# Altium integrated library Analog Devices Data Converters Analog-to-Digital Converters.IntLib: 2400 symbols (part 328 of 338)
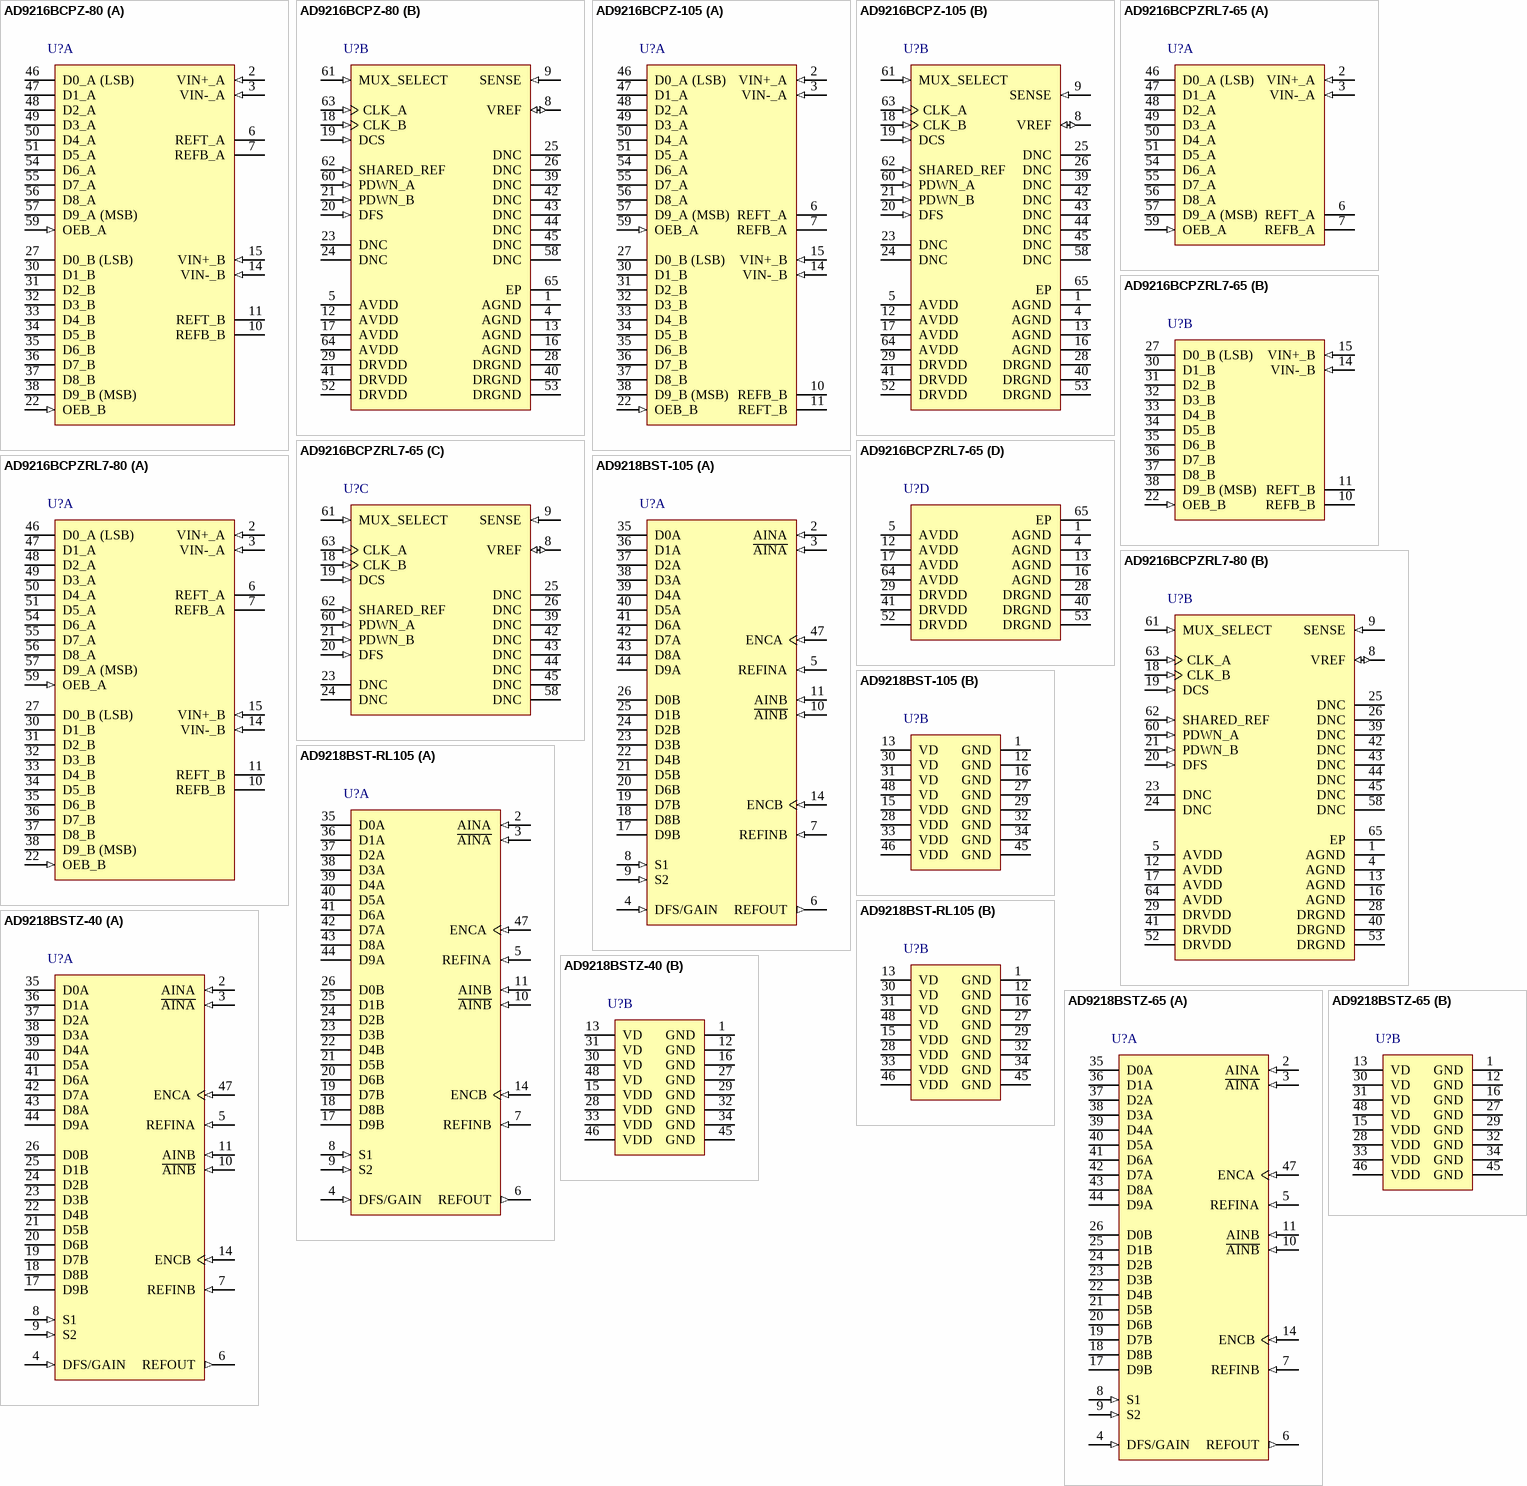
[diagram p433: symbols AD9216BCPZ-80 to AD9218BSTZ-65]

## AD9218BST-RL105
designator U?
Dual 10-Bit Analog-to-Digital Converter with Parallel Interface, 3 V, 105MSPS, -40 to +85 degC, ST-48, Reel; Part Number: AD9218-105; Manufacturer: Analog Devices; Resolution (Bits): 10; Channels: 2; Throughput Rate (SPS): 105M; Interface: Par; DatasheetVersion: Rev.C; PackageVersion: revA; PackageReference: ST-48; PackageDescription: 48-Pin Thin Quad Flat Pack 0.5 mm Pitch; RoHS: N; Packing: Reel; Mounting Technology: Surface Mount; ComponentLink1Description: Manufacturer URL; ComponentLink1URL: http://www.analog.com/en/index.html; ComponentLink2Description: Datasheet; ComponentLink2URL: http://www.analog.com/static/imported-files/data_sheets/AD9218.pdf; ComponentLink3Description: Package Specification; ComponentLink3URL: http://www.analog.com/static/imported-files/packages/PKG_PDF/LQFP%28ST%29/ST_48.pdf; ComponentLink4Description: Product URL; ComponentLink4URL: http://www.analog.com/en/analog-to-digital-converters/ad-converters/ad9218/products/product.html
footprint ST-48_N (Thin QFP, 48-Leads, Body 7x7mm, Pitch 0.5mm, IPC Medium Density)
footprint ST-48_L (Thin QFP, 48-Leads, Body 7x7mm, Pitch 0.5mm, IPC High Density)
footprint ST-48_M (Thin QFP, 48-Leads, Body 7x7mm, Pitch 0.5mm, IPC Low Density)
part A pins: 2 AINA (in) "Analog Input for Channel A.", 3 ~{AINA} (in) "Analog Input for Channel A (Complementary).", 4 DFS/GAIN (in) "Data Format Select and Analog Input Gain Mode. Low = offset binary output available, 1 V p-p supported;  high = twos complement output available, 1 V p-p supported; floating = offset binary output available,   2 V p-p (See Datasheet)", 5 REFINA (in) "Reference Voltage Input for Channel A.", 6 REFOUT (out) "Internal Reference Voltage.", 7 REFINB (in) "Reference Voltage Input for Channel B.", 8 S1 (in) "User Select No. 1. See Table 6.", 9 S2 (in) "User Select No. 2. See Table 6.", 10 ~{AINB} (in) "Analog Input for Channel B (Complementary).", 11 AINB (in) "Analog Input for Channel B.", 14 ENCB (in) "Clock Input for Channel B.", 17 D9B (hiz) "Digital Output for Channel B (D9B = MSB).", 18 D8B (hiz) "Digital Output for Channel B (D9B = MSB).", 19 D7B (hiz) "Digital Output for Channel B (D9B = MSB).", 20 D6B (hiz) "Digital Output for Channel B (D9B = MSB).", 21 D5B (hiz) "Digital Output for Channel B (D9B = MSB).", 22 D4B (hiz) "Digital Output for Channel B (D9B = MSB).", 23 D3B (hiz) "Digital Output for Channel B (D9B = MSB).", 24 D2B (hiz) "Digital Output for Channel B (D9B = MSB).", 25 D1B (hiz) "Digital Output for Channel B (D9B = MSB).", 26 D0B (hiz) "Digital Output for Channel B (D9B = MSB).", 35 D0A (hiz) "Digital Output for Channel A (D9A = MSB).", 36 D1A (hiz) "Digital Output for Channel A (D9A = MSB).", 37 D2A (hiz) "Digital Output for Channel A (D9A = MSB).", 38 D3A (hiz) "Digital Output for Channel A (D9A = MSB).", 39 D4A (hiz) "Digital Output for Channel A (D9A = MSB).", 40 D5A (hiz) "Digital Output for Channel A (D9A = MSB).", 41 D6A (hiz) "Digital Output for Channel A (D9A = MSB).", 42 D7A (hiz) "Digital Output for Channel A (D9A = MSB).", 43 D8A (hiz) "Digital Output for Channel A (D9A = MSB).", 44 D9A (hiz) "Digital Output for Channel A (D9A = MSB).", 47 ENCA (in) "Clock Input for Channel A."
part B pins: 1 GND (power) "Ground.", 12 GND (power) "Ground.", 13 VD (power) "Analog Supply (3 V).", 15 VDD (power) "Digital Supply (2.5 V to 3.6 V).", 16 GND (power) "Ground.", 27 GND (power) "Ground.", 28 VDD (power) "Digital Supply (2.5 V to 3.6 V).", 29 GND (power) "Ground.", 30 VD (power) "Analog Supply (3 V).", 31 VD (power) "Analog Supply (3 V).", 32 GND (power) "Ground.", 33 VDD (power) "Digital Supply (2.5 V to 3.6 V).", 34 GND (power) "Ground.", 45 GND (power) "Ground.", 46 VDD (power) "Digital Supply (2.5 V to 3.6 V).", 48 VD (power) "Analog Supply (3 V)."

## AD9218BSTZ-40
designator U?
Dual 10-Bit Analog-to-Digital Converter with Parallel Interface, 40 / 65 / 80 / 105 Msps 3 V 40MSPS, -40 to +85 degC, ST-48, Pb-Free, Tray; Part Number: AD9218-40; Manufacturer: Analog Devices; Resolution (Bits): 10; Channels: 2; Throughput Rate (SPS): 40M; Interface: Par; DatasheetVersion: Rev.C; PackageVersion: revA; PackageReference: ST-48; PackageDescription: 48-Pin Thin Quad Flat Pack 0.5 mm Pitch; RoHS: Y; Packing: Tray; Mounting Technology: Surface Mount; ComponentLink1Description: Manufacturer URL; ComponentLink1URL: http://www.analog.com/en/index.html; ComponentLink2Description: Datasheet; ComponentLink2URL: http://www.analog.com/static/imported-files/data_sheets/AD9218.pdf; ComponentLink3Description: Package Specification; ComponentLink3URL: http://www.analog.com/static/imported-files/packages/PKG_PDF/LQFP%28ST%29/ST_48.pdf; ComponentLink4Description: Product URL; ComponentLink4URL: http://www.analog.com/en/analog-to-digital-converters/ad-converters/ad9218/products/product.html
footprint ST-48_N (Thin QFP, 48-Leads, Body 7x7mm, Pitch 0.5mm, IPC Medium Density)
footprint ST-48_L (Thin QFP, 48-Leads, Body 7x7mm, Pitch 0.5mm, IPC High Density)
footprint ST-48_M (Thin QFP, 48-Leads, Body 7x7mm, Pitch 0.5mm, IPC Low Density)
part A pins: 2 AINA (in) "Analog Input for Channel A.", 3 ~{AINA} (in) "Analog Input for Channel A (Complementary).", 4 DFS/GAIN (in) "Data Format Select and Analog Input Gain Mode. Low = offset binary output available, 1 V p-p supported;  high = twos complement output available, 1 V p-p supported; floating = offset binary output available,   2 V p-p (See Datasheet)", 5 REFINA (in) "Reference Voltage Input for Channel A.", 6 REFOUT (out) "Internal Reference Voltage.", 7 REFINB (in) "Reference Voltage Input for Channel B.", 8 S1 (in) "User Select No. 1. See Table 6.", 9 S2 (in) "User Select No. 2. See Table 6.", 10 ~{AINB} (in) "Analog Input for Channel B (Complementary).", 11 AINB (in) "Analog Input for Channel B.", 14 ENCB (in) "Clock Input for Channel B.", 17 D9B (hiz) "Digital Output for Channel B (D9B = MSB).", 18 D8B (hiz) "Digital Output for Channel B (D9B = MSB).", 19 D7B (hiz) "Digital Output for Channel B (D9B = MSB).", 20 D6B (hiz) "Digital Output for Channel B (D9B = MSB).", 21 D5B (hiz) "Digital Output for Channel B (D9B = MSB).", 22 D4B (hiz) "Digital Output for Channel B (D9B = MSB).", 23 D3B (hiz) "Digital Output for Channel B (D9B = MSB).", 24 D2B (hiz) "Digital Output for Channel B (D9B = MSB).", 25 D1B (hiz) "Digital Output for Channel B (D9B = MSB).", 26 D0B (hiz) "Digital Output for Channel B (D9B = MSB).", 35 D0A (hiz) "Digital Output for Channel A (D9A = MSB).", 36 D1A (hiz) "Digital Output for Channel A (D9A = MSB).", 37 D2A (hiz) "Digital Output for Channel A (D9A = MSB).", 38 D3A (hiz) "Digital Output for Channel A (D9A = MSB).", 39 D4A (hiz) "Digital Output for Channel A (D9A = MSB).", 40 D5A (hiz) "Digital Output for Channel A (D9A = MSB).", 41 D6A (hiz) "Digital Output for Channel A (D9A = MSB).", 42 D7A (hiz) "Digital Output for Channel A (D9A = MSB).", 43 D8A (hiz) "Digital Output for Channel A (D9A = MSB).", 44 D9A (hiz) "Digital Output for Channel A (D9A = MSB).", 47 ENCA (in) "Clock Input for Channel A."
part B pins: 1 GND (power) "Ground.", 12 GND (power) "Ground.", 13 VD (power) "Analog Supply (3 V).", 15 VDD (power) "Digital Supply (2.5 V to 3.6 V).", 16 GND (power) "Ground.", 27 GND (power) "Ground.", 28 VDD (power) "Digital Supply (2.5 V to 3.6 V).", 29 GND (power) "Ground.", 30 VD (power) "Analog Supply (3 V).", 31 VD (power) "Analog Supply (3 V).", 32 GND (power) "Ground.", 33 VDD (power) "Digital Supply (2.5 V to 3.6 V).", 34 GND (power) "Ground.", 45 GND (power) "Ground.", 46 VDD (power) "Digital Supply (2.5 V to 3.6 V).", 48 VD (power) "Analog Supply (3 V)."

## AD9218BSTZ-65
designator U?
Dual 10-Bit Analog-to-Digital Converter with Parallel Interface, 40 / 65 / 80 / 105 Msps 3 V 65MSPS, -40 to +85 degC, ST-48, Pb-Free, Tray; Part Number: AD9218-65; Manufacturer: Analog Devices; Resolution (Bits): 10; Channels: 2; Throughput Rate (SPS): 65M; Interface: Par; DatasheetVersion: Rev.C; PackageVersion: revA; PackageReference: ST-48; PackageDescription: 48-Pin Thin Quad Flat Pack 0.5 mm Pitch; RoHS: Y; Packing: Tray; Mounting Technology: Surface Mount; ComponentLink1Description: Manufacturer URL; ComponentLink1URL: http://www.analog.com/en/index.html; ComponentLink2Description: Datasheet; ComponentLink2URL: http://www.analog.com/static/imported-files/data_sheets/AD9218.pdf; ComponentLink3Description: Package Specification; ComponentLink3URL: http://www.analog.com/static/imported-files/packages/PKG_PDF/LQFP%28ST%29/ST_48.pdf; ComponentLink4Description: Product URL; ComponentLink4URL: http://www.analog.com/en/analog-to-digital-converters/ad-converters/ad9218/products/product.html
footprint ST-48_N (Thin QFP, 48-Leads, Body 7x7mm, Pitch 0.5mm, IPC Medium Density)
footprint ST-48_L (Thin QFP, 48-Leads, Body 7x7mm, Pitch 0.5mm, IPC High Density)
footprint ST-48_M (Thin QFP, 48-Leads, Body 7x7mm, Pitch 0.5mm, IPC Low Density)
part A pins: 2 AINA (in) "Analog Input for Channel A.", 3 ~{AINA} (in) "Analog Input for Channel A (Complementary).", 4 DFS/GAIN (in) "Data Format Select and Analog Input Gain Mode. Low = offset binary output available, 1 V p-p supported;  high = twos complement output available, 1 V p-p supported; floating = offset binary output available,   2 V p-p (See Datasheet)", 5 REFINA (in) "Reference Voltage Input for Channel A.", 6 REFOUT (out) "Internal Reference Voltage.", 7 REFINB (in) "Reference Voltage Input for Channel B.", 8 S1 (in) "User Select No. 1. See Table 6.", 9 S2 (in) "User Select No. 2. See Table 6.", 10 ~{AINB} (in) "Analog Input for Channel B (Complementary).", 11 AINB (in) "Analog Input for Channel B.", 14 ENCB (in) "Clock Input for Channel B.", 17 D9B (hiz) "Digital Output for Channel B (D9B = MSB).", 18 D8B (hiz) "Digital Output for Channel B (D9B = MSB).", 19 D7B (hiz) "Digital Output for Channel B (D9B = MSB).", 20 D6B (hiz) "Digital Output for Channel B (D9B = MSB).", 21 D5B (hiz) "Digital Output for Channel B (D9B = MSB).", 22 D4B (hiz) "Digital Output for Channel B (D9B = MSB).", 23 D3B (hiz) "Digital Output for Channel B (D9B = MSB).", 24 D2B (hiz) "Digital Output for Channel B (D9B = MSB).", 25 D1B (hiz) "Digital Output for Channel B (D9B = MSB).", 26 D0B (hiz) "Digital Output for Channel B (D9B = MSB).", 35 D0A (hiz) "Digital Output for Channel A (D9A = MSB).", 36 D1A (hiz) "Digital Output for Channel A (D9A = MSB).", 37 D2A (hiz) "Digital Output for Channel A (D9A = MSB).", 38 D3A (hiz) "Digital Output for Channel A (D9A = MSB).", 39 D4A (hiz) "Digital Output for Channel A (D9A = MSB).", 40 D5A (hiz) "Digital Output for Channel A (D9A = MSB).", 41 D6A (hiz) "Digital Output for Channel A (D9A = MSB).", 42 D7A (hiz) "Digital Output for Channel A (D9A = MSB).", 43 D8A (hiz) "Digital Output for Channel A (D9A = MSB).", 44 D9A (hiz) "Digital Output for Channel A (D9A = MSB).", 47 ENCA (in) "Clock Input for Channel A."
part B pins: 1 GND (power) "Ground.", 12 GND (power) "Ground.", 13 VD (power) "Analog Supply (3 V).", 15 VDD (power) "Digital Supply (2.5 V to 3.6 V).", 16 GND (power) "Ground.", 27 GND (power) "Ground.", 28 VDD (power) "Digital Supply (2.5 V to 3.6 V).", 29 GND (power) "Ground.", 30 VD (power) "Analog Supply (3 V).", 31 VD (power) "Analog Supply (3 V).", 32 GND (power) "Ground.", 33 VDD (power) "Digital Supply (2.5 V to 3.6 V).", 34 GND (power) "Ground.", 45 GND (power) "Ground.", 46 VDD (power) "Digital Supply (2.5 V to 3.6 V).", 48 VD (power) "Analog Supply (3 V)."

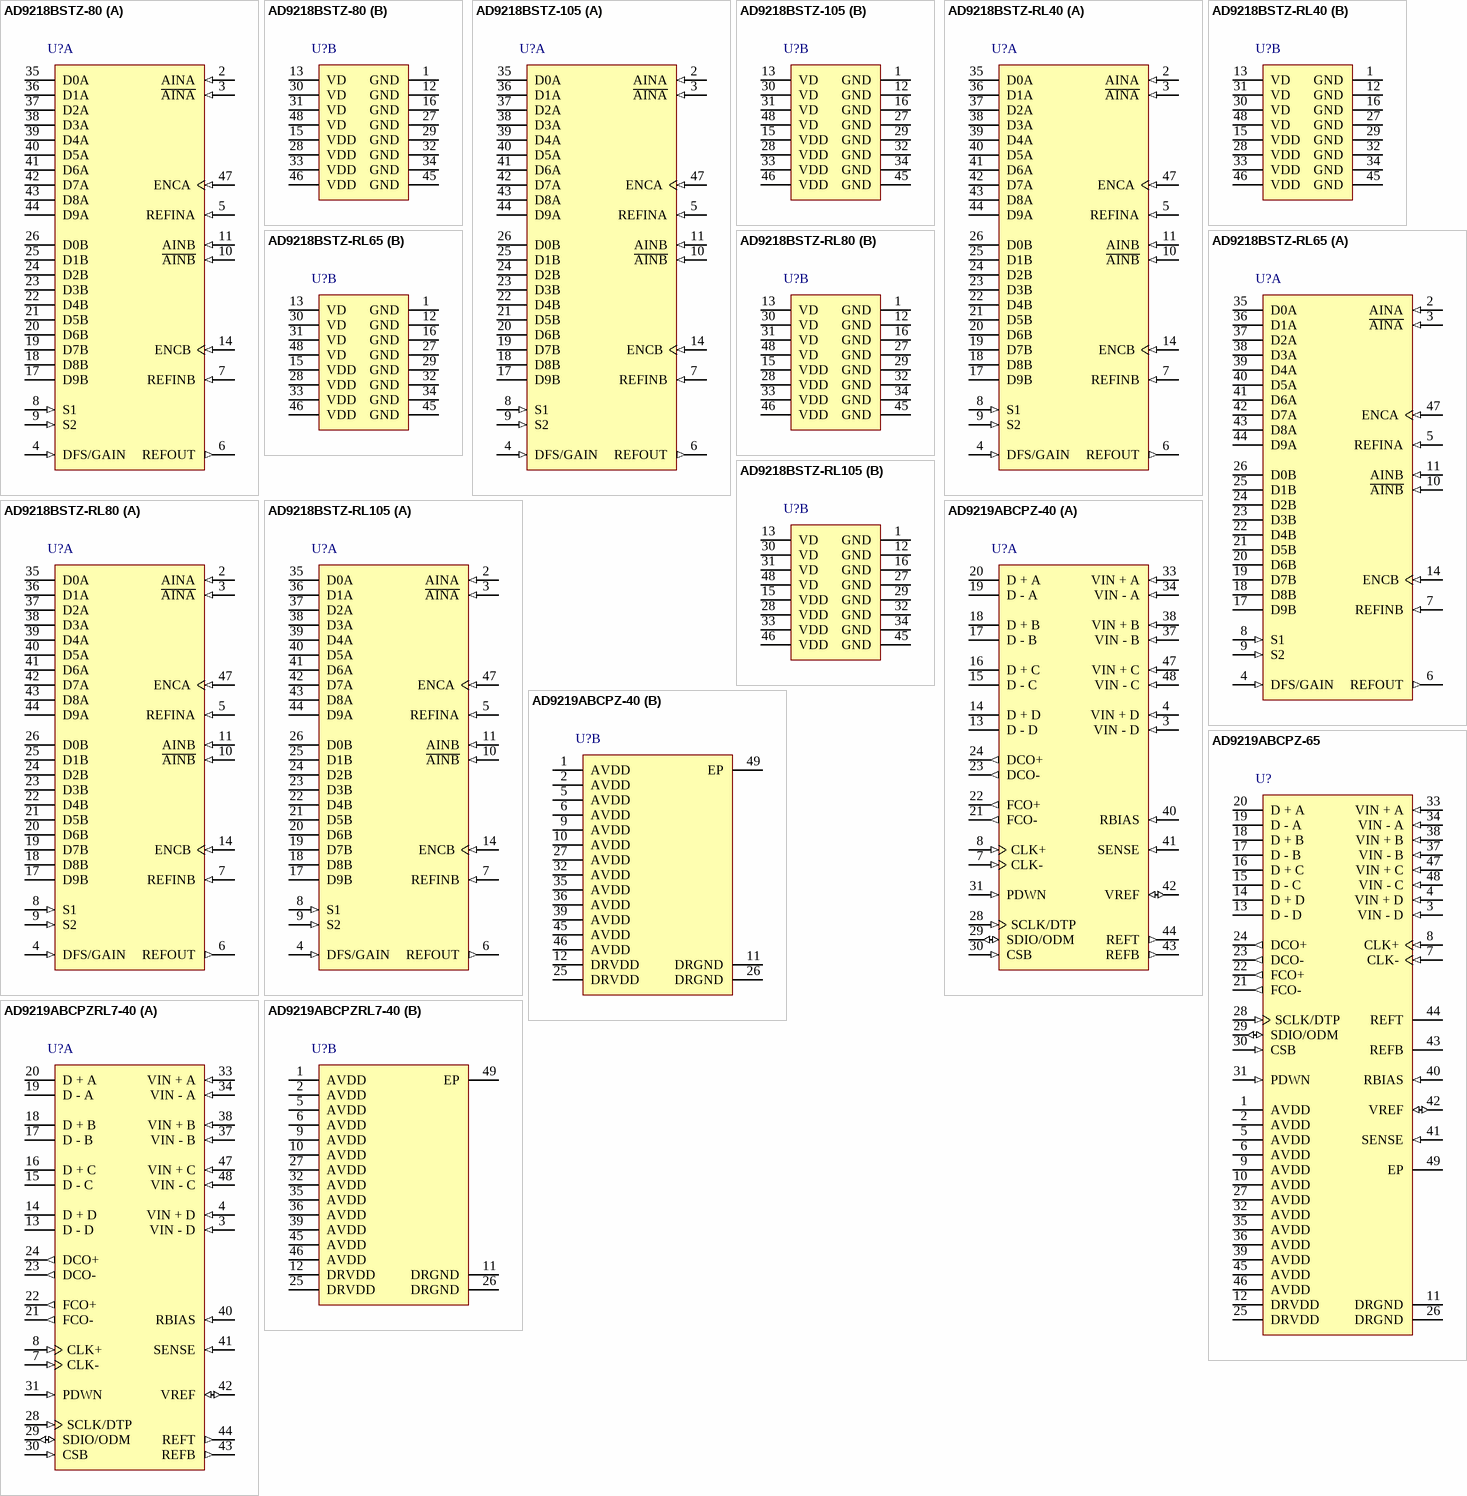
[diagram p102: symbols AD9218BSTZ-80 to AD9219ABCPZRL7-40]

## AD9218BSTZ-80
designator U?
Dual 10-Bit Analog-to-Digital Converter with Parallel Interface, 80Msps 3 V 105MSPS, -40 to +85 degC, ST-48, Pb-Free, Tray; Part Number: AD9218-80; Manufacturer: Analog Devices; Resolution (Bits): 10; Channels: 2; Throughput Rate (SPS): 105M; Interface: Par; DatasheetVersion: Rev.C; PackageVersion: revA; PackageReference: ST-48; PackageDescription: 48-Pin Thin Quad Flat Pack 0.5 mm Pitch; RoHS: Y; Packing: Tray; Mounting Technology: Surface Mount; ComponentLink1Description: Manufacturer URL; ComponentLink1URL: http://www.analog.com/en/index.html; ComponentLink2Description: Datasheet; ComponentLink2URL: http://www.analog.com/static/imported-files/data_sheets/AD9218.pdf; ComponentLink3Description: Package Specification; ComponentLink3URL: http://www.analog.com/static/imported-files/packages/PKG_PDF/LQFP%28ST%29/ST_48.pdf; ComponentLink4Description: Product URL; ComponentLink4URL: http://www.analog.com/en/analog-to-digital-converters/ad-converters/ad9218/products/product.html
footprint ST-48_N (Thin QFP, 48-Leads, Body 7x7mm, Pitch 0.5mm, IPC Medium Density)
footprint ST-48_L (Thin QFP, 48-Leads, Body 7x7mm, Pitch 0.5mm, IPC High Density)
footprint ST-48_M (Thin QFP, 48-Leads, Body 7x7mm, Pitch 0.5mm, IPC Low Density)
part A pins: 2 AINA (in) "Analog Input for Channel A.", 3 ~{AINA} (in) "Analog Input for Channel A (Complementary).", 4 DFS/GAIN (in) "Data Format Select and Analog Input Gain Mode. Low = offset binary output available, 1 V p-p supported;  high = twos complement output available, 1 V p-p supported; floating = offset binary output available,   2 V p-p (See Datasheet)", 5 REFINA (in) "Reference Voltage Input for Channel A.", 6 REFOUT (out) "Internal Reference Voltage.", 7 REFINB (in) "Reference Voltage Input for Channel B.", 8 S1 (in) "User Select No. 1. See Table 6.", 9 S2 (in) "User Select No. 2. See Table 6.", 10 ~{AINB} (in) "Analog Input for Channel B (Complementary).", 11 AINB (in) "Analog Input for Channel B.", 14 ENCB (in) "Clock Input for Channel B.", 17 D9B (hiz) "Digital Output for Channel B (D9B = MSB).", 18 D8B (hiz) "Digital Output for Channel B (D9B = MSB).", 19 D7B (hiz) "Digital Output for Channel B (D9B = MSB).", 20 D6B (hiz) "Digital Output for Channel B (D9B = MSB).", 21 D5B (hiz) "Digital Output for Channel B (D9B = MSB).", 22 D4B (hiz) "Digital Output for Channel B (D9B = MSB).", 23 D3B (hiz) "Digital Output for Channel B (D9B = MSB).", 24 D2B (hiz) "Digital Output for Channel B (D9B = MSB).", 25 D1B (hiz) "Digital Output for Channel B (D9B = MSB).", 26 D0B (hiz) "Digital Output for Channel B (D9B = MSB).", 35 D0A (hiz) "Digital Output for Channel A (D9A = MSB).", 36 D1A (hiz) "Digital Output for Channel A (D9A = MSB).", 37 D2A (hiz) "Digital Output for Channel A (D9A = MSB).", 38 D3A (hiz) "Digital Output for Channel A (D9A = MSB).", 39 D4A (hiz) "Digital Output for Channel A (D9A = MSB).", 40 D5A (hiz) "Digital Output for Channel A (D9A = MSB).", 41 D6A (hiz) "Digital Output for Channel A (D9A = MSB).", 42 D7A (hiz) "Digital Output for Channel A (D9A = MSB).", 43 D8A (hiz) "Digital Output for Channel A (D9A = MSB).", 44 D9A (hiz) "Digital Output for Channel A (D9A = MSB).", 47 ENCA (in) "Clock Input for Channel A."
part B pins: 1 GND (power) "Ground.", 12 GND (power) "Ground.", 13 VD (power) "Analog Supply (3 V).", 15 VDD (power) "Digital Supply (2.5 V to 3.6 V).", 16 GND (power) "Ground.", 27 GND (power) "Ground.", 28 VDD (power) "Digital Supply (2.5 V to 3.6 V).", 29 GND (power) "Ground.", 30 VD (power) "Analog Supply (3 V).", 31 VD (power) "Analog Supply (3 V).", 32 GND (power) "Ground.", 33 VDD (power) "Digital Supply (2.5 V to 3.6 V).", 34 GND (power) "Ground.", 45 GND (power) "Ground.", 46 VDD (power) "Digital Supply (2.5 V to 3.6 V).", 48 VD (power) "Analog Supply (3 V)."